# Altium schematic symbol library 2D Components_v1.SchLib: 49 symbols
Pins are listed as number, name and electrical type; pins without a type are passive.

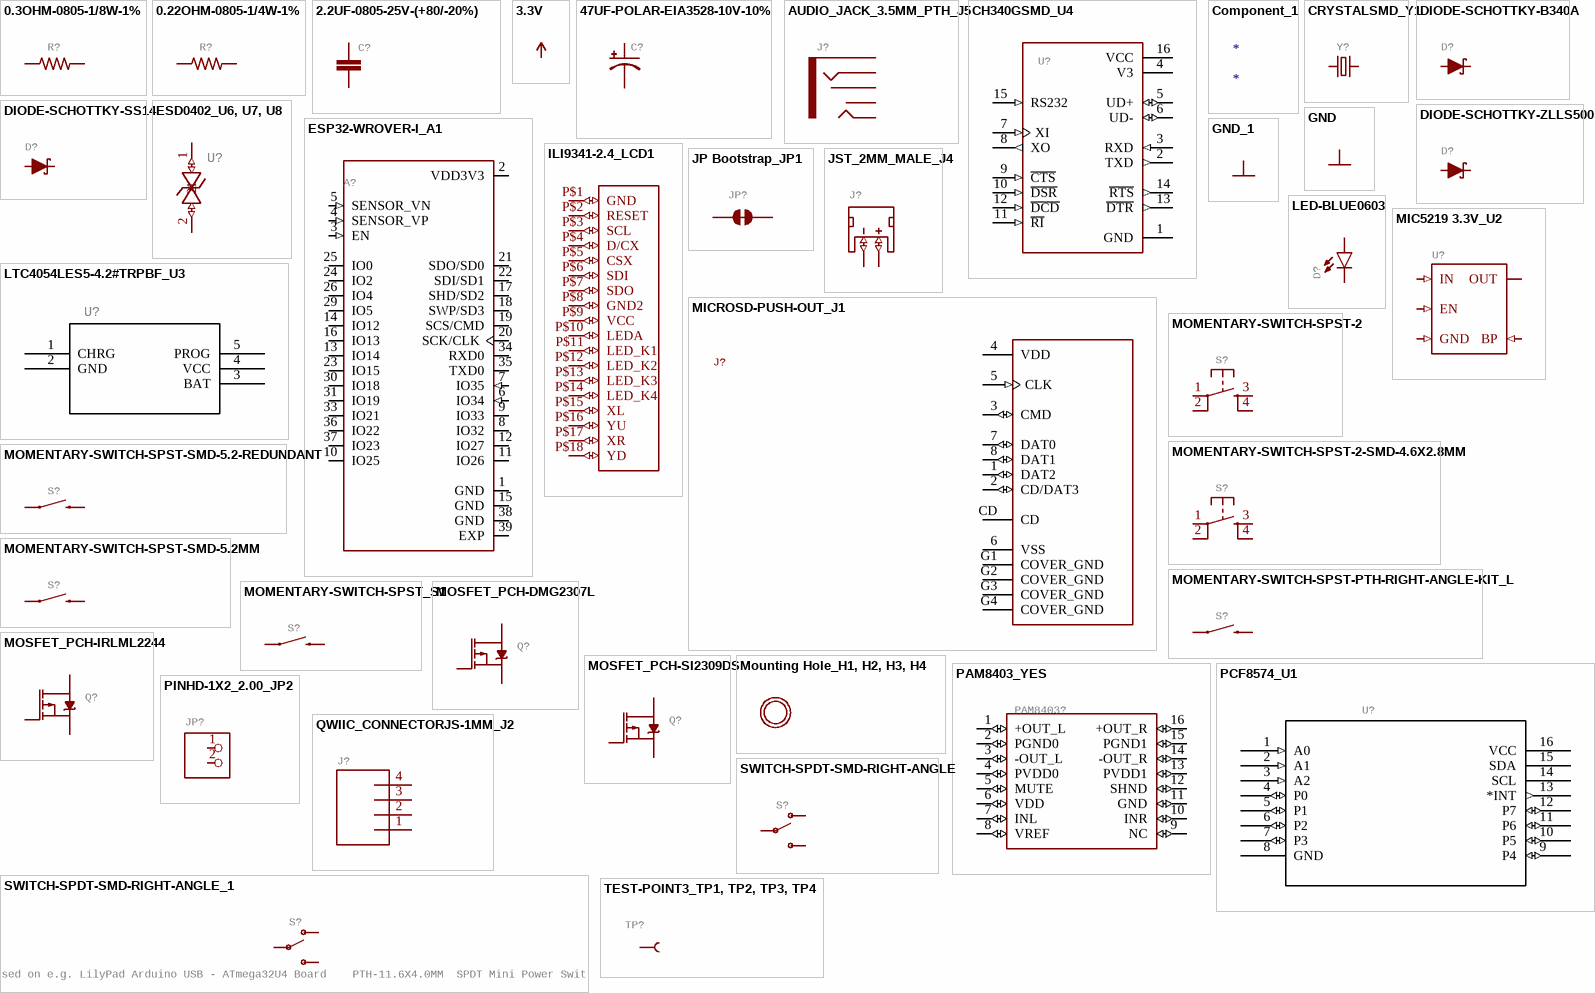
[diagram p0: symbols 0.3OHM-0805-1/8W-1% to TEST-POINT3_TP1, TP2, TP3, TP4]

## 0.3OHM-0805-1/8W-1%
designator R?, comment 0.3Î© resistor    A resistor is a passive two-terminal electrical component that implements electrical resistance as a circuit element. Resistors act to reduce current flow, and, at the same time, act to lower voltage levels within circuits. - Wikipedia  (value not drawn)
GateName_1: G$1; DeviceName: -0805-1/8W-1%; DeviceSetName: 0.3OHM; PROD_ID: RES-11622; SymbolName_1: RESISTOR; LibraryName: SparkFun-Resistors; Package: 0805
footprint 0805 RESISTOR
pins: 1, 2

## 0.22OHM-0805-1/4W-1%
designator R?, comment 0.22Î© resistor    A resistor is a passive two-terminal electrical component that implements electrical resistance as a circuit element. Resistors act to reduce current flow, and, at the same time, act to lower voltage levels within circuits. - Wikipedia  (value not drawn)
GateName_1: G$1; DeviceName: -0805-1/4W-1%; DeviceSetName: 0.22OHM; PROD_ID: RES-09883; SymbolName_1: RESISTOR; LibraryName: SparkFun-Resistors; Package: 0805
footprint 0805
pins: 1, 2

## 2.2UF-0805-25V-(+80/-20%)
designator C?, comment 2.2ÂµF ceramic capacitors    A capacitor is a passive two-terminal electrical component used to store electrical energy temporarily in an electric field.  (value not drawn)
GateName_1: G$1; SymbolName_1: CAP; DeviceName: -0805-25V-(+80/-20%); DeviceSetName: 2.2UF; PROD_ID: CAP-10009; LibraryName: SparkFun-Capacitors; Package: 0805
footprint 0805
pins: 1, 2

## 3.3V
designator SUPPLY?, comment 3.3V Supply Symbol    Power supply symbol for a specifically-stated 3.3V source.  (value not drawn)
GateName_1: G$1; SymbolName_1: 3.3V; LibraryName: SparkFun-PowerSymbols; DeviceSetName: 3.3V
pins: ?1 3.3V (power)

## 47UF-POLAR-EIA3528-10V-10%
designator C?, comment 47ÂµF polarized capacitors    A capacitor is a passive two-terminal electrical component used to store electrical energy temporarily in an electric field.  (value not drawn)
GateName_1: G$1; SymbolName_1: CAP_POL; DeviceName: -EIA3528-10V-10%; DeviceSetName: 47UF-POLAR; PROD_ID: CAP-08478; LibraryName: SparkFun-Capacitors; Package: EIA3528
footprint EIA3528
pins: A +, C -

## AUDIO_JACK_3.5MM_PTH_J5
designator J?, comment Audio Jack     3.5mm variants of PTH and SMT stereo audio jack with bypass switches.   SparkFun Products:  SparkFun SparkPunk Sound Kit  - PTH  MP3 Trigger -3.5mm SMD  SparkFun PicoBoard- 2.5mm SMD  (value not drawn)
AUDIO_JACK_3.5MM_PTH; GateName_1: G$1; SymbolName_1: AUDIO-JACK2; DeviceName: _PTH; PROD_ID: CONN-10353; SF_ID: PRT-08032; LibraryName: SparkFun-Connectors; DeviceSetName: AUDIO_JACK_3.5MM; Package: AUDIO-JACK
footprint AUDIO-JACK
pins: RING (io), RSH (io), SLEEVE (io), TIP (io), TSH (io)

## CH340GSMD_U4
designator U?, comment A simple USB 2.0 to Serial IC.  (value not drawn)
CH340GSMD_SO016; GateName_1: U1; SymbolName_1: CH340G; DeviceName: SMD; PROD_ID: IC-13498; LibraryName: SparkFun-IC-Comms; DeviceSetName: CH340G; Package: SO016
footprint SO016
pins: 1 GND (power), 2 TXD (out), 3 RXD (in), 4 V3 (power), 5 UD+ (io), 6 UD- (io), 7 XI (in), 8 XO (out), 9 ~{CTS} (in), 10 ~{DSR} (in), 11 ~{RI} (in), 12 ~{DCD} (in), 13 ~{DTR} (out), 14 ~{RTS} (out), 15 RS232 (in), 16 VCC (power)

## Component_1
designator *

## CRYSTALSMD_Y1
designator Y?, comment Crystals (Generic)    These are passive quartz crystals, which can be used as a clock source for a microcontroller.   Crystal's are two-terminal devices. They require external "load" capacitors to generate an oscillating signal.  (value not drawn)
CRYSTALSMD-5X3.2-4PAD; GateName_1: G$1; SymbolName_1: CRYSTAL; DeviceName: SMD-5X3.2-4PAD; LibraryName: SparkFun-Clocks; DeviceSetName: CRYSTAL; Package: CRYSTAL-SMD-5X3.2-4PAD
footprint CRYSTAL-SMD-5X3-2-4PAD
pins: 1, 3 2

## DIODE-SCHOTTKY-B340A
designator D?, comment Schottky diode    A Schottky diode is a semiconductor diode which has a low forward voltage drop and a very fast switching action.  (value not drawn)
GateName_1: G$1; SymbolName_1: DIODE-SCHOTTKY; DeviceName: -B340A; PROD_ID: DIO-11018; LibraryName: SparkFun-DiscreteSemi; DeviceSetName: DIODE-SCHOTTKY; Package: SMA-DIODE
footprint SMA-DIODE
pins: A, C

## DIODE-SCHOTTKY-SS14
designator D?, comment Schottky diode    A Schottky diode is a semiconductor diode which has a low forward voltage drop and a very fast switching action.  (value not drawn)
GateName_1: G$1; SymbolName_1: DIODE-SCHOTTKY; DeviceName: -SS14; PROD_ID: DIO-08053; LibraryName: SparkFun-DiscreteSemi; DeviceSetName: DIODE-SCHOTTKY; Package: SMA-DIODE
footprint SMA-DIODE
pins: A, C

## DIODE-SCHOTTKY-ZLLS500
designator D?, comment Schottky diode    A Schottky diode is a semiconductor diode which has a low forward voltage drop and a very fast switching action.  (value not drawn)
GateName_1: G$1; SymbolName_1: DIODE-SCHOTTKY; DeviceName: -ZLLS500; PROD_ID: DIO-08411; LibraryName: SparkFun-DiscreteSemi; DeviceSetName: DIODE-SCHOTTKY; Package: SOT23-3
footprint SOT23-3
pins: 1 A, 3 C

## ESD0402_U6, U7, U8
designator U?, comment None  (value not drawn)
ESD0402; GateName_1: G$1; SymbolName_1: ESDM3032MXT5G; LibraryName: ESDM3032MXT5G; DeviceSetName: ESD0402; Package: ESD0402
footprint ESD0402
pins: 1 (io), 2 (io)

## ESP32-WROVER-I_A1
designator A?, comment XCVR_ESP32-WROVER-I  (value not drawn)
Module: combo; GPIO, I2C x2, I2S x2, SDIO, SPI x3, UART x3; U.FL; GateName_1: G$1; MF: Espressif Systems; SymbolName_1: ESP32-WROVER-I; LibraryName: ESP32-WROVER-I; DeviceSetName: ESP32-WROVER-I; Package: XCVR_ESP32-WROVER-I; AVAILABILITY: Unavailable; MP: ESP32-WROVER-I; PACKAGE: Module Espressif Systems; PRICE: None
footprint XCVR_ESP32-WROVER-I
pins: 1 GND (power), 2 VDD3V3 (power), 3 EN (in), 4 SENSOR_VP (in), 5 SENSOR_VN (in), 6 IO34 (in), 7 IO35 (in), 8 IO32 (io), 9 IO33 (io), 10 IO25 (io), 11 IO26 (io), 12 IO27 (io), 13 IO14 (io), 14 IO12 (io), 15 GND (power), 16 IO13 (io), 17 SHD/SD2 (io), 18 SWP/SD3 (io), 19 SCS/CMD (io), 20 SCK/CLK (io), 21 SDO/SD0 (io), 22 SDI/SD1 (io), 23 IO15 (io), 24 IO2 (io), 25 IO0 (io), 26 IO4 (io), 29 IO5 (io), 30 IO18 (io), 31 IO19 (io), 33 IO21 (io), 34 RXD0 (io), 35 TXD0 (io), 36 IO22 (io), 37 IO23 (io), 38 GND (power), 39 EXP (power)

## GND
designator GND?, comment Ground Supply Symbol    Generic signal ground supply symbol.  (value not drawn)
GateName_1: 1; SymbolName_1: DGND; DeviceSetName: GND; LibraryName: SparkFun-PowerSymbols
pins: ?1 GND (power)

## GND_1
designator GND?, comment SUPPLY SYMBOL  (value not drawn)
GateName_1: 1; SymbolName_1: GND; LibraryName: supply1; DeviceSetName: GND
pins: ?1 GND (power)

## ILI9341-2.4_LCD1
designator LCD?
GateName_1: G$1; SymbolName_1: ILI9341-2.4; LibraryName: TFTDisplays; DeviceSetName: ILI9341-2.4; Package: ILI9341-2.4
footprint ILI9341-2-4
pins: P$1 GND (io), P$2 RESET (io), P$3 SCL (io), P$4 D/CX (io), P$5 CSX (io), P$6 SDI (io), P$7 SDO (io), P$8 GND2 (io), P$9 VCC (io), P$10 LEDA (io), P$11 LED_K1 (io), P$12 LED_K2 (io), P$13 LED_K3 (io), P$14 LED_K4 (io), P$15 XL (io), P$16 YU (io), P$17 XR (io), P$18 YD (io)

## JP Bootstrap_JP1
designator JP?, comment Normally closed trace jumper    This jumper has a trace between two pads so it's normally closed (NC). Use a razor knife to open the connection. For best results follow the IPC guidelines for cutting traces: Cutout at least 0.063 mm (0.005 in).  Remove all loose material to clean up the cut area.  Seal the cut with an approved epoxy.       Reapply solder to reclose the connection.  (value not drawn)
JUMPER-SMT_2_NC_TRACE_NO-SILK; GateName_1: G$1; SymbolName_1: SMT-JUMPER_2_NC_TRACE; DeviceName: _NO-SILK; LibraryName: SparkFun-Jumpers; DeviceSetName: JUMPER-SMT_2_NC_TRACE; Package: SMT-JUMPER_2_NC_TRACE_NO-SILK
footprint SMT-JUMPER_2_NC_TRACE_NO-SILK
pins: 1, 2

## JST_2MM_MALE_J4
designator J?, comment JST 2MM MALE RA CONNECTOR Two pin, compact surface mount connector. Commonly used as a battery input connection point. We really like the solid locking feeling and high current rating on these small connectors. We use these all the time as battery connectors. Mates to single-cell LiPo batteries.    Here is the connector we sell at SparkFun: JST Right Angle Connector - White (PRT-08612)  Datasheet      It was used on these SparkFun products: SparkFun MOSFET Power Controller (PRT-11214)  SparkFun Battery Babysitter - LiPo Battery Manager (PRT-13777)  And many, many others that required a lipo battery connection.  (value not drawn)
JST_2MM_MALE; GateName_1: G$1; PROD_ID: CONN-11443; SymbolName_1: JST_2MM_MALE; LibraryName: SparkFun-Connectors; DeviceSetName: JST_2MM_MALE; Package: JST-2-SMD; SF_ID: PRT-08612
footprint JST-2-SMD
pins: 1 - (io), 2 + (io), NC1 PAD1 (io), NC2 PAD2 (io)

## LED-BLUE0603
designator D?, comment Blue SMD LED    Used in manufacturing of various products at SparkFun   Packages: 0603 - SMD 0603 package [Product Link]  1206 - SMD1206  package [Product Link]    SparkFun Products: ESP8266 Thing-Dev Board  RedBoard  (value not drawn)
GateName_1: G$1; DeviceName: 0603; DeviceSetName: LED-BLUE; PROD_ID: DIO-09911; SymbolName_1: LED; LibraryName: SparkFun-LED; Package: LED-0603
footprint LED-0603
pins: A, C

## LTC4054LES5-4.2#TRPBF_U3
designator U?, comment LTC4054L-4.2 - 150mA Standalone Linear Li-Ion Battery Charger in ThinSOT  (value not drawn)
LTC4054LES5-4.2#TRPBF*?; GateName_1: A; MF: Linear Technology/Analog; SymbolName_1: LTC4054LES5-4.2#TRPBF; LibraryName: LTC4054LES5-4.2_TRPBF; DeviceSetName: LTC4054LES5-4.2#TRPBF*?; Package: SOT95P280X100-5N; DIGI-KEY_PART_NUMBER: LTC4054LES5-4.2#TRPBFCT-ND; DIGI-KEY_PURCHASE_URL: https://www.digikey.co.id/product-detail/en/linear-technology-analog-devices/LTC4054LES5-4.2-TRPBF/LTC4054LES5-4.2-TRPBFCT-ND/1888452?utm_source=snapeda&utm_medium=aggregator&utm_campaign=symbol; MP: LTC4054LES5-4.2#TRPBF; PACKAGE: SOT-23-5 Linear Technology
footprint SOT95P280X100-5N
pins: 1 CHRG, 2 GND (power), 3 BAT, 4 VCC (power), 5 PROG

## MIC5219 3.3V_U2
designator U?, comment V_REG MIC5219Standard 3.3V and 5V 500mA LDO voltage regulator in SOT-23 layout. Micrel part MIC5219. BP (by-pass) pin is used to lower output noise with 470pF cap, may be left open.  (value not drawn)
V_REG_MIC52193.3V; GateName_1: G$1; SymbolName_1: V-REG-LDO; PROD_ID: VREG-09872; DeviceName: 3.3V; LibraryName: SparkFun-IC-Power; DeviceSetName: V_REG_MIC5219; Package: SOT23-5
footprint SOT23-5
pins: 1 IN (in), 2 GND (in), 3 EN (in), 4 BP (in), 5 OUT

## MICROSD-PUSH-OUT_J1
designator J?, comment MICROSD-PUSH-OUT  (value not drawn)
T-Flash Push-Out Micro SD Card Reader 14.75mm x 14.5mm SMD with external pins; GateName_1: G$1; SymbolName_1: MICROSD; LibraryName: microsd; DeviceSetName: MICROSD-PUSH-OUT; Package: MICROSD-PUSH-OUT
footprint MICROSD-PUSH-OUT
pins: 1 DAT2 (io), 2 CD/DAT3 (io), 3 CMD (io), 4 VDD (power), 5 CLK (in), 6 VSS (power), 7 DAT0 (io), 8 DAT1 (io), CD, G1 COVER_GND (power), G2 COVER_GND (power), G3 COVER_GND (power), G4 COVER_GND (power)

## MOMENTARY-SWITCH-SPST-2
designator S?, comment Momentary Switch (Pushbutton) - SPST - Two Circuits    Normally-open (NO) SPST momentary switches (buttons, pushbuttons). Schematic symbol includes two switch circuits. Variants  SMD-4.6MMX2.8MM -  4.60mm x 2.80mm Tactile Momentary Button Switch  - Used on SparkFun SAMD21 Mini Breakout  SMD-5.2MM - Mini Pushbutton Switch - SMD - Used on Arduino Pro Mini  (value not drawn)
MOMENTARY-SWITCH-SPST-2-SMD-5.2MM, S2, S3, S4, S5, S6, S7, S8, S9, S11; GateName_1: G$1; SymbolName_1: SWITCH-MOMENTARY; PROD_ID: SWCH-08247; SF_SKU: COM-08720; DeviceName: -SMD-5.2MM; LibraryName: SparkFun-Switches; DeviceSetName: MOMENTARY-SWITCH-SPST-2; Package: TACTILE_SWITCH_SMD_5.2MM
footprint TACTILE_SWITCH_SMD_5-2MM
pins: 1, 2, 3, 4

## MOMENTARY-SWITCH-SPST-2-SMD-4.6X2.8MM
designator S?, comment Momentary Switch (Pushbutton) - SPST - Two Circuits    Normally-open (NO) SPST momentary switches (buttons, pushbuttons). Schematic symbol includes two switch circuits. Variants  SMD-4.6MMX2.8MM -  4.60mm x 2.80mm Tactile Momentary Button Switch  - Used on SparkFun SAMD21 Mini Breakout  SMD-5.2MM - Mini Pushbutton Switch - SMD - Used on Arduino Pro Mini  (value not drawn)
GateName_1: G$1; SymbolName_1: SWITCH-MOMENTARY; DeviceName: -SMD-4.6X2.8MM; DeviceSetName: MOMENTARY-SWITCH-SPST-2; PROD_ID: SWCH-13065; LibraryName: SparkFun-Switches; Package: TACTILE_SWITCH_SMD_4.6X2.8MM
footprint TACTILE_SWITCH_SMD_4-6X2-8MM
pins: 1, 2, 3, 4

## MOMENTARY-SWITCH-SPST-PTH-RIGHT-ANGLE-KIT_L
designator S?, comment Momentary Switch (Pushbutton) - SPST    Normally-open (NO) SPST momentary switches (buttons, pushbuttons). Variants  PTH-12MM - 12mm square, through-hole  Momentary Pushbutton Switch - 12mm Square (COM-09190)     PTH-6.0MM, PTH-6.0MM-KIT - 6.0mm square, through-hole  Mini Pushbutton Switch (COM-00097)  KIT package intended for soldering kit's - only one side of pads' copper is exposed.     PTH-RIGHT-ANGLE-KIT - Right-angle, through-hole  Right Angle Tactile Button - Used on SparkFun BigTime Watch Kit     SMD-12MM - 12mm square, surface-mount  Tactile Button - SMD (12mm) (COM-12993)  Used on SparkFun PicoBoard     SMD-4.5MM - 4.5mm Square Trackball Switch  Used on SparkFun Blackberry Trackballer Breakout     SMD-4.6MMX2.8MM -  4.60mm x 2.80mm, surface mount  Used on SparkFun SAMD21 Mini Breakout     SMD-5.2MM, SMD-5.2-REDUNDANT - 5.2mm square, surface-mount  Mini Pushbutton Switch - SMD (COM-08720)  Used on Arduino Pro Mini  REDUNDANT package connects both switch circuits together     SMD-6.0X3.5MM - 6.0 x 3.5mm, surface mount  Momentary Reset Switch SMD (COM-08229)     SMD-6.2MM-TALL - 6.2mm square, surface mount  Tactile Button - SMD (6mm)  Used on SparkFun Digital Sandbox     SMD-RIGHT-ANGLE - Right-angle, surface mount  Used on SparkFun Block for IntelÂ® Edison - Arduino  (value not drawn)
MOMENTARY-SWITCH-SPST-PTH-RIGHT-ANGLE-KIT; GateName_1: G$1; SymbolName_1: SWITCH-MOMENTARY-2; PROD_ID: SWCH-09213; SF_SKU: COM-10791; DeviceName: -PTH-RIGHT-ANGLE-KIT; LibraryName: SparkFun-Switches; DeviceSetName: MOMENTARY-SWITCH-SPST; Package: TACTILE_SWITCH_PTH_RIGHT_ANGLE_KIT
footprint TACTILE_SWITCH_PTH_RIGHT_ANGLE_KIT
pins: 1, 2

## MOMENTARY-SWITCH-SPST-SMD-5.2-REDUNDANT
designator S?, comment Momentary Switch (Pushbutton) - SPST    Normally-open (NO) SPST momentary switches (buttons, pushbuttons). Variants  PTH-12MM - 12mm square, through-hole  Momentary Pushbutton Switch - 12mm Square (COM-09190)     PTH-6.0MM, PTH-6.0MM-KIT - 6.0mm square, through-hole  Mini Pushbutton Switch (COM-00097)  KIT package intended for soldering kit's - only one side of pads' copper is exposed.     PTH-RIGHT-ANGLE-KIT - Right-angle, through-hole  Right Angle Tactile Button - Used on SparkFun BigTime Watch Kit     SMD-12MM - 12mm square, surface-mount  Tactile Button - SMD (12mm) (COM-12993)  Used on SparkFun PicoBoard     SMD-4.5MM - 4.5mm Square Trackball Switch  Used on SparkFun Blackberry Trackballer Breakout     SMD-4.6MMX2.8MM -  4.60mm x 2.80mm, surface mount  Used on SparkFun SAMD21 Mini Breakout     SMD-5.2MM, SMD-5.2-REDUNDANT - 5.2mm square, surface-mount  Mini Pushbutton Switch - SMD (COM-08720)  Used on Arduino Pro Mini  REDUNDANT package connects both switch circuits together     SMD-6.0X3.5MM - 6.0 x 3.5mm, surface mount  Momentary Reset Switch SMD (COM-08229)     SMD-6.2MM-TALL - 6.2mm square, surface mount  Tactile Button - SMD (6mm)  Used on SparkFun Digital Sandbox     SMD-RIGHT-ANGLE - Right-angle, surface mount  Used on SparkFun Block for IntelÂ® Edison - Arduino  (value not drawn)
GateName_1: G$1; SymbolName_1: SWITCH-MOMENTARY-2; DeviceName: -SMD-5.2-REDUNDANT; DeviceSetName: MOMENTARY-SWITCH-SPST; PROD_ID: SWCH-08247; LibraryName: SparkFun-Switches; Package: TACTILE_SWITCH_SMD_5.2MM; SF_SKU: COM-08720
footprint TACTILE_SWITCH_SMD_5-2MM
pins: 1,2 1, 3,4 2

## MOMENTARY-SWITCH-SPST-SMD-5.2MM
designator S?, comment Momentary Switch (Pushbutton) - SPST    Normally-open (NO) SPST momentary switches (buttons, pushbuttons). Variants  PTH-12MM - 12mm square, through-hole  Momentary Pushbutton Switch - 12mm Square (COM-09190)     PTH-6.0MM, PTH-6.0MM-KIT - 6.0mm square, through-hole  Mini Pushbutton Switch (COM-00097)  KIT package intended for soldering kit's - only one side of pads' copper is exposed.     PTH-RIGHT-ANGLE-KIT - Right-angle, through-hole  Right Angle Tactile Button - Used on SparkFun BigTime Watch Kit     SMD-12MM - 12mm square, surface-mount  Tactile Button - SMD (12mm) (COM-12993)  Used on SparkFun PicoBoard     SMD-4.5MM - 4.5mm Square Trackball Switch  Used on SparkFun Blackberry Trackballer Breakout     SMD-4.6MMX2.8MM -  4.60mm x 2.80mm, surface mount  Used on SparkFun SAMD21 Mini Breakout     SMD-5.2MM, SMD-5.2-REDUNDANT - 5.2mm square, surface-mount  Mini Pushbutton Switch - SMD (COM-08720)  Used on Arduino Pro Mini  REDUNDANT package connects both switch circuits together     SMD-6.0X3.5MM - 6.0 x 3.5mm, surface mount  Momentary Reset Switch SMD (COM-08229)     SMD-6.2MM-TALL - 6.2mm square, surface mount  Tactile Button - SMD (6mm)  Used on SparkFun Digital Sandbox     SMD-RIGHT-ANGLE - Right-angle, surface mount  Used on SparkFun Block for IntelÂ® Edison - Arduino  (value not drawn)
GateName_1: G$1; SymbolName_1: SWITCH-MOMENTARY-2; DeviceName: -SMD-5.2MM; DeviceSetName: MOMENTARY-SWITCH-SPST; PROD_ID: COMP-12265; LibraryName: SparkFun-Switches; Package: TACTILE_SWITCH_SMD_5.2MM; SF_SKU: COM-12993
footprint TACTILE_SWITCH_SMD_5-2MM
pins: 1, 3 2

## MOMENTARY-SWITCH-SPST_S1
designator S?, comment Momentary Switch (Pushbutton) - SPST    Normally-open (NO) SPST momentary switches (buttons, pushbuttons). Variants  PTH-12MM - 12mm square, through-hole  Momentary Pushbutton Switch - 12mm Square (COM-09190)     PTH-6.0MM, PTH-6.0MM-KIT - 6.0mm square, through-hole  Mini Pushbutton Switch (COM-00097)  KIT package intended for soldering kit's - only one side of pads' copper is exposed.     PTH-RIGHT-ANGLE-KIT - Right-angle, through-hole  Right Angle Tactile Button - Used on SparkFun BigTime Watch Kit     SMD-12MM - 12mm square, surface-mount  Tactile Button - SMD (12mm) (COM-12993)  Used on SparkFun PicoBoard     SMD-4.5MM - 4.5mm Square Trackball Switch  Used on SparkFun Blackberry Trackballer Breakout     SMD-4.6MMX2.8MM -  4.60mm x 2.80mm, surface mount  Used on SparkFun SAMD21 Mini Breakout     SMD-5.2MM, SMD-5.2-REDUNDANT - 5.2mm square, surface-mount  Mini Pushbutton Switch - SMD (COM-08720)  Used on Arduino Pro Mini  REDUNDANT package connects both switch circuits together     SMD-6.0X3.5MM - 6.0 x 3.5mm, surface mount  Momentary Reset Switch SMD (COM-08229)     SMD-6.2MM-TALL - 6.2mm square, surface mount  Tactile Button - SMD (6mm)  Used on SparkFun Digital Sandbox     SMD-RIGHT-ANGLE - Right-angle, surface mount  Used on SparkFun Block for IntelÂ® Edison - Arduino  (value not drawn)
MOMENTARY-SWITCH-SPST-SMD-4.6X2.8MM; GateName_1: G$1; SymbolName_1: SWITCH-MOMENTARY-2; PROD_ID: SWCH-13065; DeviceName: -SMD-4.6X2.8MM; LibraryName: SparkFun-Switches; DeviceSetName: MOMENTARY-SWITCH-SPST; Package: TACTILE_SWITCH_SMD_4.6X2.8MM
footprint TACTILE_SWITCH_SMD_4-6X2-8MM
pins: 1,2 1, 3,4 2

## MOSFET_PCH-DMG2307L
designator Q?, comment P-channel MOSFETs    Voltage controlled devices that allow control of high current outputs.   SparkFun Products: SparkFun ESP32 Thing  SparkFun ESP8266 Thing  (value not drawn)
GateName_1: G$1; SymbolName_1: LABELED-PMOS; DeviceName: -DMG2307L; DeviceSetName: MOSFET_PCH; PROD_ID: TRANS-11308; LibraryName: SparkFun-DiscreteSemi; Package: SOT23-3
footprint SOT23-3
pins: 1 G (io), 2 S (io), 3 D (io)

## MOSFET_PCH-IRLML2244
designator Q?, comment P-channel MOSFETs    Voltage controlled devices that allow control of high current outputs.   SparkFun Products: SparkFun ESP32 Thing  SparkFun ESP8266 Thing  (value not drawn)
GateName_1: G$1; SymbolName_1: LABELED-PMOS; DeviceName: -IRLML2244; DeviceSetName: MOSFET_PCH; PROD_ID: TRANS-08355; LibraryName: SparkFun-DiscreteSemi; Package: SOT23-3
footprint SOT23-3
pins: 1 G (io), 2 S (io), 3 D (io)

## MOSFET_PCH-SI2309DS
designator Q?, comment P-channel MOSFETs    Voltage controlled devices that allow control of high current outputs.   SparkFun Products: SparkFun ESP32 Thing  SparkFun ESP8266 Thing  (value not drawn)
GateName_1: G$1; SymbolName_1: LABELED-PMOS; DeviceName: -SI2309DS; DeviceSetName: MOSFET_PCH; PROD_ID: TRANS-08285; LibraryName: SparkFun-DiscreteSemi; Package: SOT23-3
footprint SOT23-3
pins: 1 G (io), 2 S (io), 3 D (io)

## Mounting Hole_H1, H2, H3, H4
designator H?, comment Mounting Hole   For #2 screws (0.086"/2.18mm width, 0.094"/2.4mm hole) use 2.5mm  (value not drawn)
MICROBUILDER_MOUNTINGHOLE3.0THIN; GateName_1: G$1; BOM: EXCLUDE; SymbolName_1: MICROBUILDER_MOUNTINGHOLE; DeviceName: 3.0THIN; LibraryName: Adafruit UDA1334 I2S DAC; DeviceSetName: MICROBUILDER_MOUNTINGHOLE; Package: MICROBUILDER_MOUNTINGHOLE_3.0_PLATEDTHIN
footprint MICROBUILDER_MOUNTINGHOLE_3-0_PLATEDTHIN

## PAM8403_YES
designator PAM8403?, comment PAM84031  (value not drawn)
Dual channel audio amplifier IC - PAM8403; GateName_1: G$1; SymbolName_1: PAM8403; LibraryName: PAM8403; DeviceSetName: PAM8403; Package: SOP-16
footprint SOP-16
pins: 1 +OUT_L (io), 2 PGND0 (io), 3 -OUT_L (io), 4 PVDD0 (io), 5 MUTE (io), 6 VDD (io), 7 INL (io), 8 VREF (io), 9 NC (io), 10 INR (io), 11 GND (io), 12 SHND (io), 13 PVDD1 (io), 14 -OUT_R (io), 15 PGND1 (io), 16 +OUT_R (io)

## PCF8574_U1
designator U?, comment Remote 8-bit I/O expander for I2C-bus  (value not drawn)
8 100kHz I2C SO-16-300mil I/O Expanders ROHS; GateName_1: G$1; SymbolName_1: PCF8574; MF: Texas Instruments; LibraryName: PCF8574; DeviceSetName: PCF8574; Package: SO16; AVAILABILITY: Unavailable; MP: PCF8574; PACKAGE: SOIC-16 Texas Instruments; PRICE: None
footprint SO16
pins: 1 A0 (in), 2 A1 (in), 3 A2 (in), 4 P0 (io), 5 P1 (io), 6 P2 (io), 7 P3 (io), 8 GND (power), 9 P4 (io), 10 P5 (io), 11 P6 (io), 12 P7 (io), 13 *INT (out), 14 SCL, 15 SDA, 16 VCC (power)

## PINHD-1X2_2.00_JP2
designator JP?, comment PIN HEADER  (value not drawn)
PINHD-1X2_2.00; GateName_1: G$1; SymbolName_1: PINHD2; DeviceName: _2.00; LibraryName: pinhead-1; DeviceSetName: PINHD-1X2; Package: 1X02M
footprint 1X02M
pins: 1, 2

## QWIIC_CONNECTORJS-1MM_J2
designator J?, comment SparkFun I2C Standard Qwiic Connector An SMD 1mm pitch JST connector makes it easy and quick (get it? Qwiic?) to connect I2C devices to each other. The Qwiic system enables fast and solderless connection between popular platforms and various sensors and actuators.   We carry 200mm, 100mm, 50mm, and breadboard friendly Qwiic cables. We also offer 10 pcs strips the SMD connectors.  (value not drawn)
QWIIC_CONNECTORJS-1MM; GateName_1: G$1; SymbolName_1: I2C_STANDARD; DeviceName: JS-1MM; PROD_ID: CONN-13694; LibraryName: SparkFun-Connectors; DeviceSetName: QWIIC_CONNECTOR; Package: 1X04_1MM_RA
footprint 1X04_1MM_RA
pins: 1 (power), 2 (power), 3, 4

## SWITCH-SPDT-SMD-RIGHT-ANGLE
designator S?, comment Single Pole, Double Throw (SPDT) Switch    Single-pole, double-throw (SPDT) switch. Variant Overview  SMD-AYZ0202  Surface Mount DPDT Switch (COM-00597)  Used on e.g. LilyPad Arduino USB - ATmega32U4 Board    PTH-11.6X4.0MM  SPDT Mini Power Switch (COM-00102)  Used on e.g. SparkFun Simon Says - Through-Hole Soldering Kit (KIT-10547)     PTH-11.6X4.0MM-KIT  KIT version of SPDT Mini Power Switch - Simplifies soldering by removing tStop of switch pins - only one side can be soldered.     PTH-11.6X4.0MM-LOCK  LOCK version of SPDT Mini Power Switch - Offset pins hold switch in place for easier soldering.     SMD-RIGHT-ANGLE  Surface Mount Right Angle Switch (COM-10860)  Used on e.g. SparkFun ESP8266 Thing  (value not drawn)
GateName_1: 1; SymbolName_1: TOGGLE; DeviceName: -SMD-RIGHT-ANGLE; DeviceSetName: SWITCH-SPDT; PROD_ID: SWCH-10651; LibraryName: SparkFun-Switches; Package: SWITCH_SPST_SMD_A; SF_ID: COM-00597; SF_SKU: COM-10860
footprint SWITCH_SPST_SMD_A
pins: 1 O, 2 P, 3 S

## SWITCH-SPDT-SMD-RIGHT-ANGLE_1
designator S?, comment Single Pole, Double Throw (SPDT) Switch    Single-pole, double-throw (SPDT) switch. Variant Overview  SMD-AYZ0202  Surface Mount DPDT Switch (COM-00597)  Used on e.g. LilyPad Arduino USB - ATmega32U4 Board    PTH-11.6X4.0MM  SPDT Mini Power Switch (COM-00102)  Used on e.g. SparkFun Simon Says - Through-Hole Soldering Kit (KIT-10547)     PTH-11.6X4.0MM-KIT  KIT version of SPDT Mini Power Switch - Simplifies soldering by removing tStop of switch pins - only one side can be soldered.     PTH-11.6X4.0MM-LOCK  LOCK version of SPDT Mini Power Switch - Offset pins hold switch in place for easier soldering.     SMD-RIGHT-ANGLE  Surface Mount Right Angle Switch (COM-10860)  Used on e.g. SparkFun ESP8266 Thing
GateName_1: 1; SymbolName_1: TOGGLE; DeviceName: -SMD-RIGHT-ANGLE; DeviceSetName: SWITCH-SPDT; PROD_ID: SWCH-10651; LibraryName: SparkFun-Switches; Package: SWITCH_SPST_SMD_A; SF_ID: COM-00597; SF_SKU: COM-10860
footprint SWITCH_SPST_SMD_A
pins: 1 O, 2 P, 3 S

## TEST-POINT3_TP1, TP2, TP3, TP4
designator TP?, comment SparkFun Test Points    Bare copper test points for troubleshooting or In-Circuit-Testing. These are used by our Production team for verifying production board runs using pogo-pins on test beds.   SparkFun Products: SparkFun LSM9DS1 Breakout  SparkFun PSOC  SparkFun Load Cell Amplifier  (value not drawn)
PAD.03X.03; GateName_1: G$1; SymbolName_1: TEST-POINT; DeviceName: 3; LibraryName: SparkFun-Connectors; DeviceSetName: TEST-POINT; Package: PAD.03X.03
footprint PAD-03X-03
pins: P$1 1 (io)

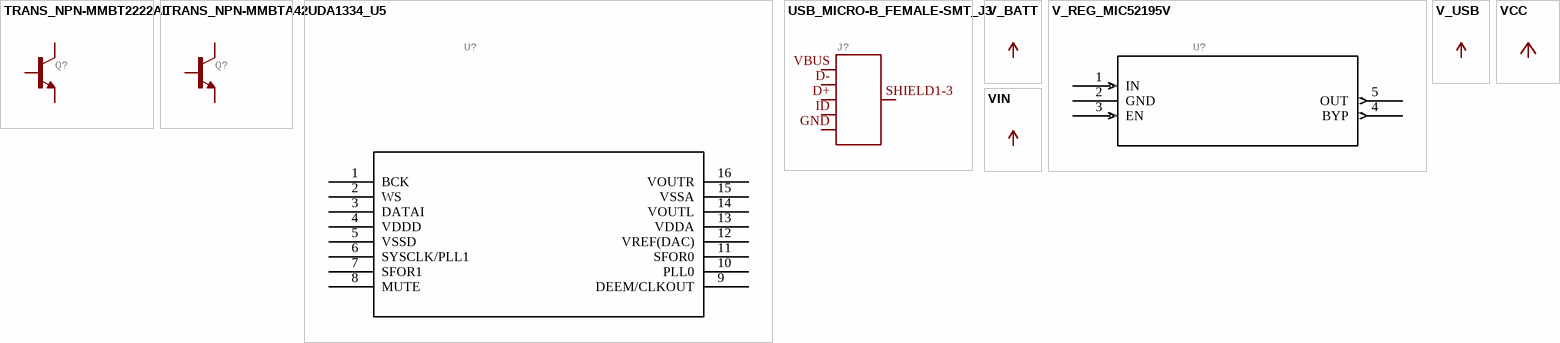
[diagram p1: symbols TRANS_NPN-MMBT2222AL to VIN]

## TRANS_NPN-MMBT2222AL
designator Q?, comment NPN transistor    Current controlled devices typically used to amplify current or used as a switch.         BC547 -     COM-08928    (TO-92 45V 100mA) (1.Collector 2.Base 3.Emitter)             2N3904 -     COM-00521    (TO-92 40V 200mA) (1.Emitter 2.Base 3.Collector)             P2N2222A -     COM-12852    (TO-92 40V 600mA) (1.Collector 2.Base 3.Emitter)  (value not drawn)
GateName_1: G$1; DeviceName: -MMBT2222AL; DeviceSetName: TRANS_NPN; PROD_ID: TRANS-08049; SymbolName_1: NPN; LibraryName: SparkFun-DiscreteSemi; Package: SOT23-3
footprint SOT23-3
pins: 1 B, 2 E, 3 C

## TRANS_NPN-MMBTA42
designator Q?, comment NPN transistor    Current controlled devices typically used to amplify current or used as a switch.         BC547 -     COM-08928    (TO-92 45V 100mA) (1.Collector 2.Base 3.Emitter)             2N3904 -     COM-00521    (TO-92 40V 200mA) (1.Emitter 2.Base 3.Collector)             P2N2222A -     COM-12852    (TO-92 40V 600mA) (1.Collector 2.Base 3.Emitter)  (value not drawn)
GateName_1: G$1; DeviceName: -MMBTA42; DeviceSetName: TRANS_NPN; PROD_ID: TRANS-09536; SymbolName_1: NPN; LibraryName: SparkFun-DiscreteSemi; Package: SOT23-3
footprint SOT23-3
pins: 1 B, 2 E, 3 C

## UDA1334_U5
designator U?, comment UDA1334 I2C Audio DAC    Power Supply: 2.4-3.6V  Sample frequencies from 16-100kHz  (value not drawn)
MICROBUILDER_AUDIO_I2S_UDA1334""; GateName_1: G$1; SymbolName_1: MICROBUILDER_UDA1334; DeviceName: ""; LibraryName: Adafruit UDA1334 I2S DAC; DeviceSetName: MICROBUILDER_AUDIO_I2S_UDA1334; Package: MICROBUILDER_SSOP16_4.4MM
footprint MICROBUILDER_SSOP16_4-4MM
pins: 1 BCK, 2 WS, 3 DATAI, 4 VDDD, 5 VSSD, 6 SYSCLK/PLL1, 7 SFOR1, 8 MUTE, 9 DEEM/CLKOUT, 10 PLL0, 11 SFOR0, 12 VREF(DAC), 13 VDDA, 14 VOUTL, 15 VSSA, 16 VOUTR

## USB_MICRO-B_FEMALE-SMT_J3
designator J?, comment USB Type Micro-B Connector    Male/female and PTH/SMT variants   SparkFun Products:  SparkFun microB USB Breakout  SparkFun USB microB Plug Breakout  SparkFun ESP8266 Thing  (value not drawn)
USB_MICRO-B_FEMALE-SMT_J3; GateName_1: G$1; SymbolName_1: USB-5PIN; PROD_ID: CONN-09505; SF_ID: PRT-08533; DeviceName: _FEMALE-SMT; LibraryName: SparkFun-Connectors; DeviceSetName: USB_MICRO-B; Package: USB-B-MICRO-SMD
footprint USB-B-MICRO-SMD
pins: D+ (io), D- (io), GND (power), ID (io), SHIELD1-3 SHIELD (io), VBUS (power)

## V_BATT
designator SUPPLY?, comment Battery Voltage Supply    Generic symbol for the battery input to a system.  (value not drawn)
GateName_1: G$1; SymbolName_1: V_BATT; LibraryName: SparkFun-PowerSymbols; DeviceSetName: V_BATT
pins: ?1 V_BATT (power)

## V_REG_MIC52195V
designator U?, comment V_REG MIC5219Standard 3.3V and 5V 500mA LDO voltage regulator in SOT-23 layout. Micrel part MIC5219. BP (by-pass) pin is used to lower output noise with 470pF cap, may be left open.  (value not drawn)
GateName_1: G$1; SymbolName_1: V-REG-LDO; DeviceSetName: V_REG_MIC5219; PROD_ID: VREG-10107; DeviceName: 5V; LibraryName: SparkFun-IC-Power; Package: SOT23-5
footprint SOT23-5
pins: 1 IN (in), 2 GND (power), 3 EN (in), 4 BYP (out), 5 OUT (out)

## V_USB
designator SUPPLY?, comment USB Voltage Supply  (value not drawn)
GateName_1: G$1; SymbolName_1: V_USB; LibraryName: SparkFun-PowerSymbols; DeviceSetName: V_USB
pins: ?1 V_USB (power)

## VCC
designator P+?, comment SUPPLY SYMBOL  (value not drawn)
GateName_1: VCC; SymbolName_1: VCC; LibraryName: supply1; DeviceSetName: VCC
pins: ?1 VCC (power)

## VIN
designator SUPPLY?, comment Input Voltage Supply    Generic voltage input supply symbol.  (value not drawn)
GateName_1: G$1; SymbolName_1: VIN; LibraryName: SparkFun-PowerSymbols; DeviceSetName: VIN
pins: ?1 VIN (power)